# Altium schematic symbol library ABLS Crystal Oscillator.SchLib: 1 symbol
Pins are listed as number, name and electrical type; pins without a type are passive.

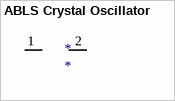
[diagram p0: symbol ABLS Crystal Oscillator]

## ABLS Crystal Oscillator
designator *
Crystal Oscillator
pins: 1, 2